# Altium footprint library MDM10.PcbLib: 1 footprints
Each footprint in its own frame and in the unit in brackets; x right, y up, seen from the top. Pads: shape width x height; smd on the part's side, far side on the other; paste and mask are expansions set on the pad; w line width, h text height; cw(c..) or ccw(c..) is an arc to the next point about the centre after c.
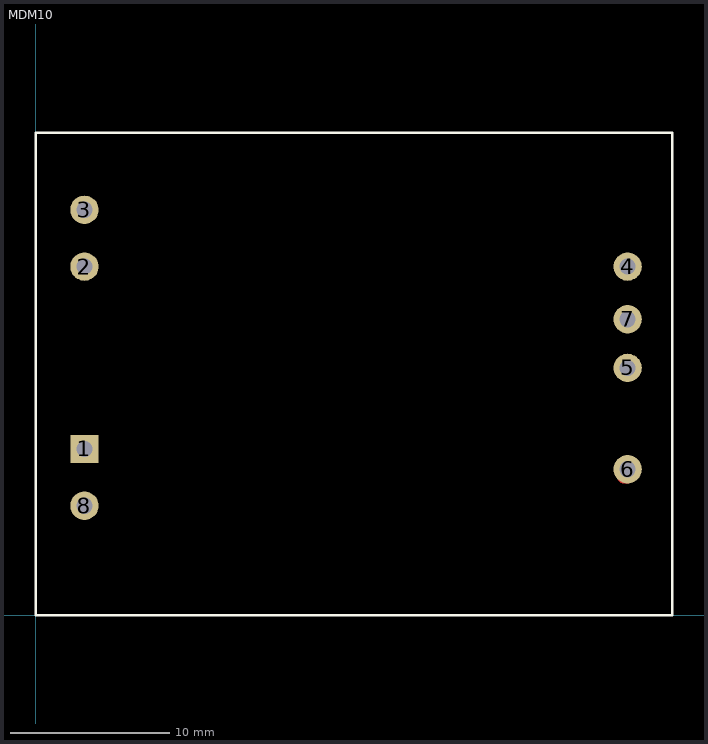
[diagram p0: the footprint, top view; thin cyan lines are the x and y axes]

## MDM10 [mil]
pads (8):
  rect 70x70 hole 40: 1(120,410)
  round 70 hole 40: 2(120,860) 3(120,1000) 4(1460,860) 5(1460,610) 6(1460,360) 7(1460,730) 8(120,270)
Top Layer:
  lines w30: 115,865 120,860 ; 125,265 125,275 ; 1450,340 1460,340 ; 1460,860 1460,865
Top Overlay:
  lines w7: 0,0 1570,0 1570,1190 0,1190 0,0